# EAGLE library part ADRF6516 (library analog-devices)
Dual Programmable Filters 31 MHZ with Variable Gain Amplifiers
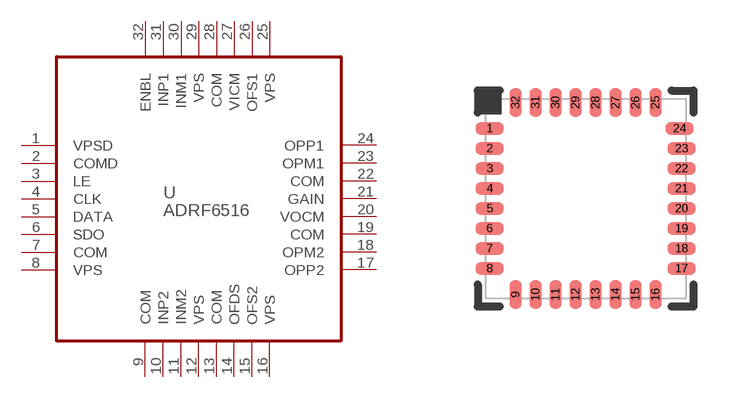
[diagram p64: symbol with the pads of LFCSP32_VQ; footprint LFCSP32_VQ]

Designator prefix U

## ADRF6516  [LFCSP32_VQ]
1  VPSD  pwr
2  COMD  pwr
3  LE  in
4  CLK  in
5  DATA  in
6  SDO  out
7  COM  pwr
8  VPS  pwr
9  COM  pwr
10  INP2  in
11  INM2  in
12  VPS  pwr
13  COM  pwr
14  OFDS  in
15  OFS2  in
16  VPS  pwr
17  OPP2  out
18  OPM2  out
19  COM  pwr
20  VOCM
21  GAIN
22  COM  pwr
23  OPM1  out
24  OPP1  out
25  VPS  pwr
26  OFS1  in
27  VICM  in
28  COM  pwr
29  VPS  pwr
30  INM1  in
31  INP1  in
32  ENBL  in

## Footprint LFCSP32_VQ (pad centres in mm)
32-Lead Lead Frame Chip Scale Package [LFCSP_VQ] 5 mm × 5 mm Body, Very Thin Quad (CP-32-2)
smd 0.7 x 0.3: 1 -2.4,1.75; 2 -2.4,1.25; 3 -2.4,0.75; 4 -2.4,0.25; 5 -2.4,-0.25; 6 -2.4,-0.75; 7 -2.4,-1.25; 8 -2.4,-1.75; 17 2.4,-1.75; 18 2.4,-1.25; 19 2.4,-0.75; 20 2.4,-0.25; 21 2.4,0.25; 22 2.4,0.75; 23 2.4,1.25; 24 2.35,1.75
smd 0.3 x 0.7: 9 -1.75,-2.4; 10 -1.25,-2.4; 11 -0.75,-2.4; 12 -0.25,-2.4; 13 0.25,-2.4; 14 0.75,-2.4; 15 1.25,-2.4; 16 1.75,-2.4; 25 1.75,2.4; 26 1.25,2.4; 27 0.75,2.4; 28 0.25,2.4; 29 -0.25,2.4; 30 -0.75,2.4; 31 -1.25,2.4; 32 -1.75,2.4